# Altium footprint library con-lstb.PCBLIB: 41 footprints (part 1 of 3)
Each footprint in its own frame and in the unit in brackets; x right, y up, seen from the top. Pads: shape width x height; smd on the part's side, far side on the other; paste and mask are expansions set on the pad; w line width, h text height; cw(c..) or ccw(c..) is an arc to the next point about the centre after c.
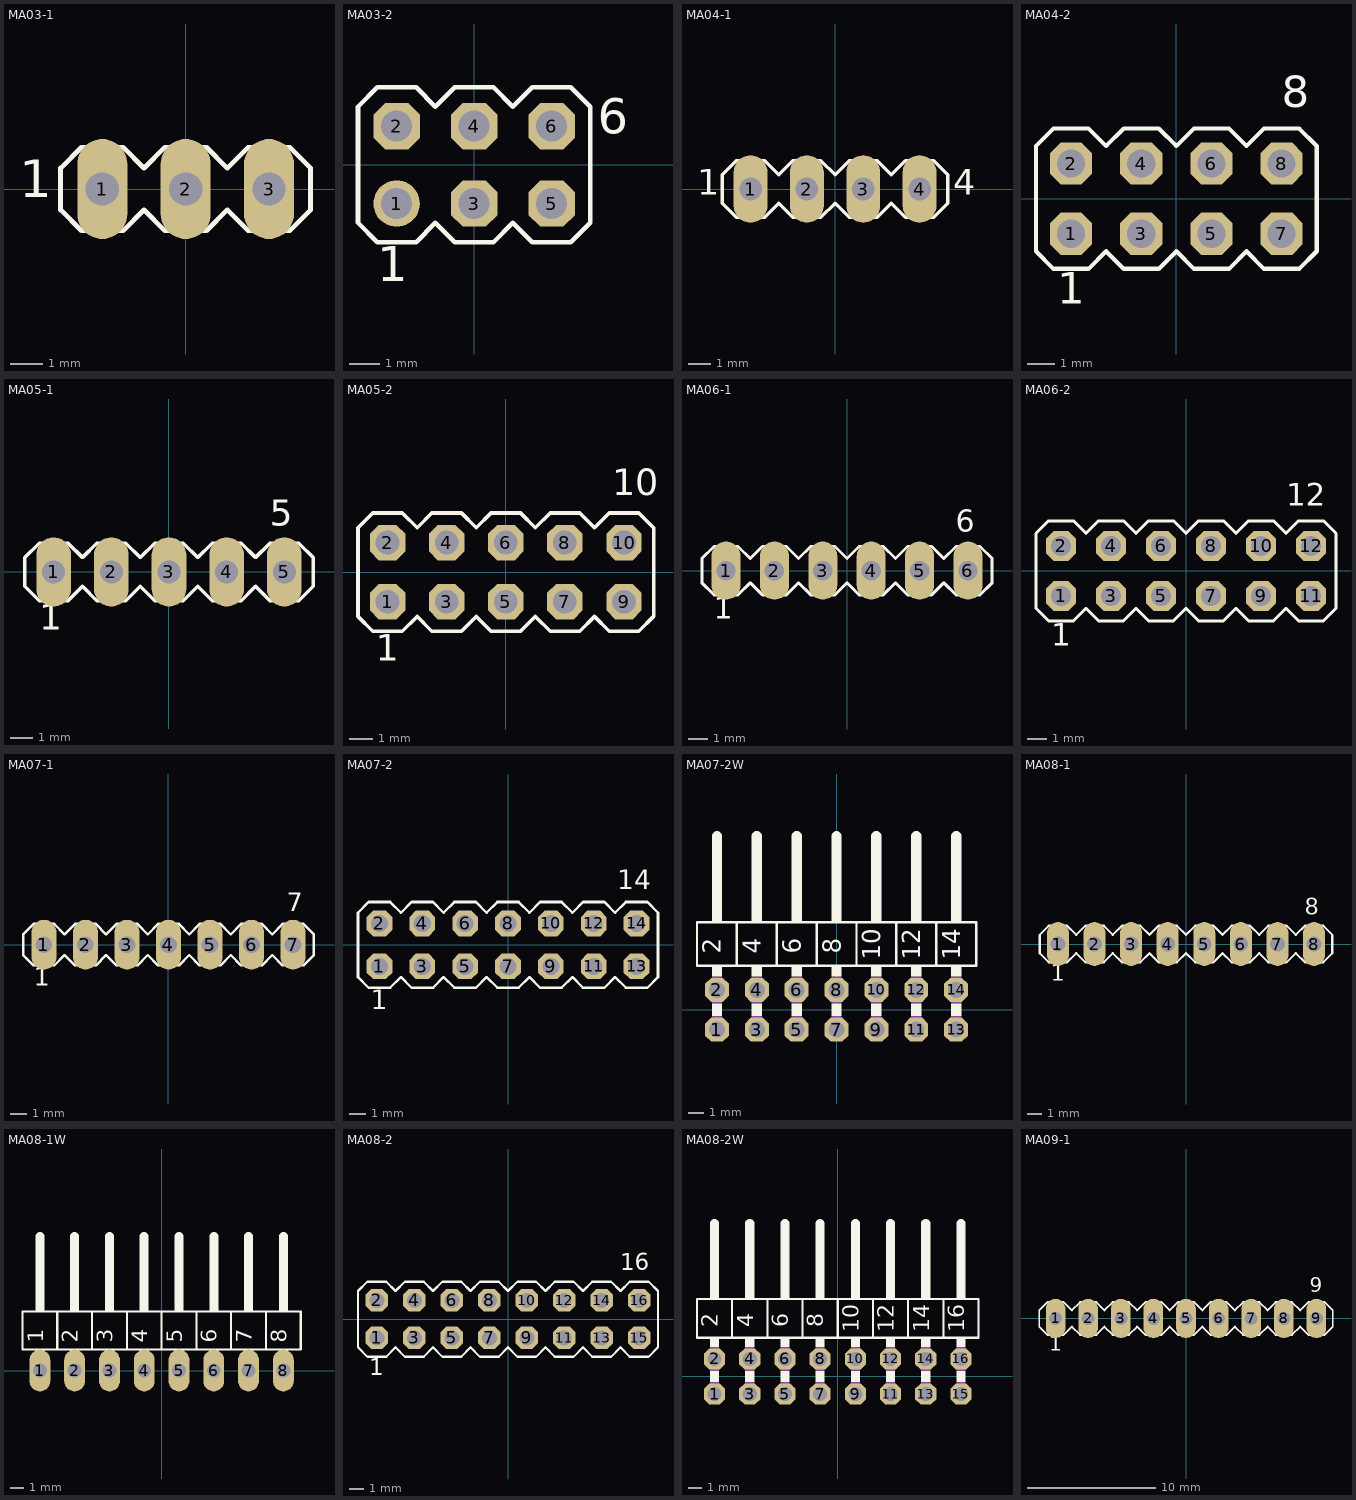
[diagram p0: the footprints below, top view; thin cyan lines are the x and y axes]

## MA03-1 [mil]
pads (3):
  oval 60x120 hole 40: 1(-100,0) 2(0,0) 3(100,0)
Top Overlay:
  lines w6: -150,-25 -150,25 -125,50 -75,50 -50,25 -25,50 25,50 50,25 75,50 125,50 150,25 150,-25 125,-50 75,-50 50,-25 25,-50 -25,-50 -50,-25 -75,-50 -125,-50 -150,-25
  text "1" at -200,-25 h77.5
Mechanical 16:
  rectangle: -10,-10 10,10
  rectangle: -110,-10 -90,10
  rectangle: 90,-10 110,10

## MA03-2 [mil]
pads (6):
  round 60 hole 40: 1(-100,-50)
  oct 60x60 hole 40: 2(-100,50) 3(0,-50) 4(0,50) 5(100,-50) 6(100,50)
Top Overlay:
  lines w6: -150,-75 -150,75 -125,100 -75,100 -50,75 -25,100 25,100 50,75 75,100 125,100 150,75 150,-75 125,-100 75,-100 50,-75 25,-100 -25,-100 -50,-75 -75,-100 -125,-100 -150,-75
  text "1" at -125,-165 h77.5
  text "6" at 160,25 h77.5
Mechanical 16:
  rectangle: -10,-60 10,-40
  rectangle: -110,-60 -90,-40
  rectangle: 90,-60 110,-40
  rectangle: -110,40 -90,60
  rectangle: -10,40 10,60
  rectangle: 90,40 110,60

## MA04-1 [mil]
pads (4):
  oval 60x120 hole 40: 1(-150,0) 2(-50,0) 3(50,0) 4(150,0)
Top Overlay:
  lines w6: -200,-25 -200,25 -175,50 -125,50 -100,25 -75,50 -25,50 0,25 25,50 75,50 100,25 125,50 175,50 200,25 200,-25 175,-50 125,-50 100,-25 75,-50 25,-50 0,-25 -25,-50 -75,-50 -100,-25 -125,-50 -175,-50 -200,-25
  text "1" at -245,-25 h77.5
  text "4" at 210,-25 h77.5
Mechanical 16:
  rectangle: -60,-10 -40,10
  rectangle: -160,-10 -140,10
  rectangle: 40,-10 60,10
  rectangle: 140,-10 160,10

## MA04-2 [mil]
pads (8):
  oct 60x60 hole 40: 1(-150,-50) 2(-150,50) 3(-50,-50) 4(-50,50) 5(50,-50) 6(50,50) 7(150,-50) 8(150,50)
Top Overlay:
  lines w6: -200,-75 -200,75 -175,100 -125,100 -100,75 -75,100 -25,100 0,75 25,100 75,100 100,75 125,100 175,100 200,75 200,-75 175,-100 125,-100 100,-75 75,-100 25,-100 0,-75 -25,-100 -75,-100 -100,-75 -125,-100 -175,-100 -200,-75
  text "1" at -170,-165 h77.5
  text "8" at 150,115 h77.5
Mechanical 16:
  rectangle: -60,-60 -40,-40
  rectangle: -160,-60 -140,-40
  rectangle: 40,-60 60,-40
  rectangle: 140,-60 160,-40
  rectangle: -160,40 -140,60
  rectangle: -60,40 -40,60
  rectangle: 40,40 60,60
  rectangle: 140,40 160,60

## MA05-1 [mil]
pads (5):
  oval 60x120 hole 40: 1(-200,0) 2(-100,0) 3(0,0) 4(100,0) 5(200,0)
Top Overlay:
  lines w6: -250,-25 -250,25 -225,50 -175,50 -150,25 -125,50 -75,50 -50,25 -25,50 25,50 50,25 75,50 125,50 150,25 175,50 225,50 250,25 250,-25 225,-50 175,-50 150,-25 125,-50 75,-50 50,-25 25,-50 -25,-50 -50,-25 -75,-50 -125,-50 -150,-25 -175,-50 -225,-50 -250,-25
  text "1" at -225,-115 h77.5
  text "5" at 175,65 h77.5
Mechanical 16:
  rectangle: -110,-10 -90,10
  rectangle: -210,-10 -190,10
  rectangle: -10,-10 10,10
  rectangle: 190,-10 210,10
  rectangle: 90,-10 110,10

## MA05-2 [mil]
pads (10):
  oct 60x60 hole 40: 1(-200,-50) 2(-200,50) 3(-100,-50) 4(-100,50) 5(0,-50) 6(0,50) 7(100,-50) 8(100,50) 9(200,-50) 10(200,50)
Top Overlay:
  lines w6: -250,-75 -250,75 -225,100 -175,100 -150,75 -125,100 -75,100 -50,75 -25,100 25,100 50,75 75,100 125,100 150,75 175,100 225,100 250,75 250,-75 225,-100 175,-100 150,-75 125,-100 75,-100 50,-75 25,-100 -25,-100 -50,-75 -75,-100 -125,-100 -150,-75 -175,-100 -225,-100 -250,-75
  text "1" at -220,-165 h77.5
  text "10" at 180,115 h77.5
Mechanical 16:
  rectangle: -110,-60 -90,-40
  rectangle: -210,-60 -190,-40
  rectangle: -10,-60 10,-40
  rectangle: 190,-60 210,-40
  rectangle: 90,-60 110,-40
  rectangle: -210,40 -190,60
  rectangle: -110,40 -90,60
  rectangle: -10,40 10,60
  rectangle: 90,40 110,60
  rectangle: 190,40 210,60

## MA06-1 [mil]
pads (6):
  oval 60x120 hole 40: 1(-250,0) 2(-150,0) 3(-50,0) 4(50,0) 5(150,0) 6(250,0)
Top Overlay:
  lines w6: -300,-25 -300,25 -275,50 -225,50 -200,25 -175,50 -125,50 -100,25 -75,50 -25,50 0,25 25,50 75,50 100,25 125,50 175,50 200,25 225,50 275,50 300,25 300,-25 275,-50 225,-50 200,-25 175,-50 125,-50 100,-25 75,-50 25,-50 0,-25 -25,-50 -75,-50 -100,-25 -125,-50 -175,-50 -200,-25 -225,-50 -275,-50 -300,-25
  text "1" at -275,-115 h77.5
  text "6" at 225,65 h77.5
Mechanical 16:
  rectangle: -160,-10 -140,10
  rectangle: -260,-10 -240,10
  rectangle: -60,-10 -40,10
  rectangle: 140,-10 160,10
  rectangle: 40,-10 60,10
  rectangle: 240,-10 260,10

## MA06-2 [mil]
pads (12):
  oct 60x60 hole 40: 1(-250,-50) 2(-250,50) 3(-150,-50) 4(-150,50) 5(-50,-50) 6(-50,50) 7(50,-50) 8(50,50) 9(150,-50) 10(150,50) 11(250,-50) 12(250,50)
Top Overlay:
  lines w6: -300,-75 -300,75 -275,100 -225,100 -200,75 -175,100 -125,100 -100,75 -75,100 -25,100 0,75 25,100 75,100 100,75 125,100 175,100 200,75 225,100 275,100 300,75 300,-75 275,-100 225,-100 200,-75 175,-100 125,-100 100,-75 75,-100 25,-100 0,-75 -25,-100 -75,-100 -100,-75 -125,-100 -175,-100 -200,-75 -225,-100 -275,-100 -300,-75
  text "1" at -270,-165 h77.5
  text "12" at 200,115 h77.5
Mechanical 16:
  rectangle: -160,-60 -140,-40
  rectangle: -260,-60 -240,-40
  rectangle: -60,-60 -40,-40
  rectangle: 140,-60 160,-40
  rectangle: 40,-60 60,-40
  rectangle: 240,-60 260,-40
  rectangle: -260,40 -240,60
  rectangle: -160,40 -140,60
  rectangle: -60,40 -40,60
  rectangle: 40,40 60,60
  rectangle: 140,40 160,60
  rectangle: 240,40 260,60

## MA07-1 [mil]
pads (7):
  oval 60x120 hole 40: 1(-300,0) 2(-200,0) 3(-100,0) 4(0,0) 5(100,0) 6(200,0) 7(300,0)
Top Overlay:
  lines w6: -350,-25 -350,25 -325,50 -275,50 -250,25 -225,50 -175,50 -150,25 -125,50 -75,50 -50,25 -25,50 25,50 50,25 75,50 125,50 150,25 175,50 225,50 250,25 275,50 325,50 350,25 350,-25 325,-50 275,-50 250,-25 225,-50 175,-50 150,-25 125,-50 75,-50 50,-25 25,-50 -25,-50 -50,-25 -75,-50 -125,-50 -150,-25 -175,-50 -225,-50 -250,-25 -275,-50 -325,-50 -350,-25
  text "1" at -325,-115 h77.5
  text "7" at 285,65 h77.5
Mechanical 16:
  rectangle: -210,-10 -190,10
  rectangle: -310,-10 -290,10
  rectangle: -110,-10 -90,10
  rectangle: 90,-10 110,10
  rectangle: -10,-10 10,10
  rectangle: 190,-10 210,10
  rectangle: 290,-10 310,10

## MA07-2 [mil]
pads (14):
  oct 60x60 hole 40: 1(-300,-50) 2(-300,50) 3(-200,-50) 4(-200,50) 5(-100,-50) 6(-100,50) 7(0,-50) 8(0,50) 9(100,-50) 10(100,50) 11(200,-50) 12(200,50) 13(300,-50) 14(300,50)
Top Overlay:
  lines w6: -350,-75 -350,75 -325,100 -275,100 -250,75 -225,100 -175,100 -150,75 -125,100 -75,100 -50,75 -25,100 25,100 50,75 75,100 125,100 150,75 175,100 225,100 250,75 275,100 325,100 350,75 350,-75 325,-100 275,-100 250,-75 225,-100 175,-100 150,-75 125,-100 75,-100 50,-75 25,-100 -25,-100 -50,-75 -75,-100 -125,-100 -150,-75 -175,-100 -225,-100 -250,-75 -275,-100 -325,-100 -350,-75
  text "1" at -320,-165 h77.5
  text "14" at 255,115 h77.5
Mechanical 16:
  rectangle: -210,-60 -190,-40
  rectangle: -310,-60 -290,-40
  rectangle: -110,-60 -90,-40
  rectangle: 90,-60 110,-40
  rectangle: -10,-60 10,-40
  rectangle: 190,-60 210,-40
  rectangle: -310,40 -290,60
  rectangle: -210,40 -190,60
  rectangle: -110,40 -90,60
  rectangle: -10,40 10,60
  rectangle: 90,40 110,60
  rectangle: 190,40 210,60
  rectangle: 290,40 310,60
  rectangle: 290,-60 310,-40

## MA07-2W [mil]
pads (14):
  oct 60x60 hole 40: 1(-300,-50) 2(-300,50) 3(-200,-50) 4(-200,50) 5(-100,-50) 6(-100,50) 7(0,-50) 8(0,50) 9(100,-50) 10(100,50) 11(200,-50) 12(200,50) 13(300,-50) 14(300,50)
Top Overlay:
  rectangle: 187,220 213,250
  rectangle: 287,220 313,250
  rectangle: -313,220 -287,250
  rectangle: -213,220 -187,250
  rectangle: -113,220 -87,250
  rectangle: -13,220 13,250
  rectangle: 87,220 113,250
  rectangle: 287,84 313,110
  rectangle: 187,84 213,110
  rectangle: 87,84 113,110
  rectangle: -13,84 13,110
  rectangle: -113,84 -87,110
  rectangle: -213,84 -187,110
  rectangle: -313,84 -287,110
  rectangle: -313,-16 -287,16
  rectangle: -213,-16 -187,16
  rectangle: -113,-16 -87,16
  rectangle: -13,-16 13,16
  rectangle: 87,-16 113,16
  rectangle: 187,-16 213,16
  rectangle: 287,-16 313,16
  lines w6: -250,110 -250,220 ; -250,110 -350,110 -350,220 -250,220 ; -250,110 -150,110 ; -250,220 -150,220 ; -150,110 -50,110 ; -150,110 -150,220 ; -150,220 -50,220 ; -50,110 50,110 ; -50,110 -50,220 ; -50,220 50,220 ; 50,110 150,110 ; 50,110 50,220 ; 50,220 150,220 ; 150,110 250,110 ; 150,110 150,220 ; 150,220 250,220 ; 250,110 250,220 ; 250,110 350,110 350,220 250,220
  lines w26: -300,250 -300,435 ; -200,250 -200,435 ; -100,250 -100,435 ; 0,250 0,435 ; 100,250 100,435 ; 200,250 200,435 ; 300,250 300,435
  text "14" at 325,125 h77.5
  text "12" at 225,125 h77.5
  text "10" at 125,125 h77.5
  text "8" at 25,140 h77.5
  text "6" at -75,140 h77.5
  text "4" at -175,140 h77.5
  text "2" at -275,140 h77.5
Mechanical 16:
  rectangle: -313,16 -287,84
  rectangle: -313,-62 -287,-16
  rectangle: -213,16 -187,84
  rectangle: -213,-62 -187,-16
  rectangle: -113,16 -87,84
  rectangle: -113,-62 -87,-16
  rectangle: -13,16 13,84
  rectangle: -13,-62 13,-16
  rectangle: 87,16 113,84
  rectangle: 187,16 213,84
  rectangle: 87,-62 113,-16
  rectangle: 187,-62 213,-16
  rectangle: 287,16 313,84
  rectangle: 287,-62 313,-16

## MA08-1 [mil]
pads (8):
  oval 60x120 hole 40: 1(-350,0) 2(-250,0) 3(-150,0) 4(-50,0) 5(50,0) 6(150,0) 7(250,0) 8(350,0)
Top Overlay:
  lines w6: -400,-25 -400,25 -375,50 -325,50 -300,25 -275,50 -225,50 -200,25 -175,50 -125,50 -100,25 -75,50 -25,50 0,25 25,50 75,50 100,25 125,50 175,50 200,25 225,50 275,50 300,25 325,50 375,50 400,25 400,-25 375,-50 325,-50 300,-25 275,-50 225,-50 200,-25 175,-50 125,-50 100,-25 75,-50 25,-50 0,-25 -25,-50 -75,-50 -100,-25 -125,-50 -175,-50 -200,-25 -225,-50 -275,-50 -300,-25 -325,-50 -375,-50 -400,-25
  text "1" at -370,-115 h77.5
  text "8" at 325,65 h77.5
Mechanical 16:
  rectangle: -260,-10 -240,10
  rectangle: -360,-10 -340,10
  rectangle: -160,-10 -140,10
  rectangle: -60,-10 -40,10
  rectangle: 140,-10 160,10
  rectangle: 40,-10 60,10
  rectangle: 240,-10 260,10
  rectangle: 340,-10 360,10

## MA08-1W [mil]
pads (8):
  oval 60x120 hole 40: 1(-350,0) 2(-250,0) 3(-150,0) 4(-50,0) 5(50,0) 6(150,0) 7(250,0) 8(350,0)
Top Overlay:
  rectangle: 137,170 163,200
  rectangle: 237,170 263,200
  rectangle: 337,170 363,200
  rectangle: -363,170 -337,200
  rectangle: -263,170 -237,200
  rectangle: -163,170 -137,200
  rectangle: -63,170 -37,200
  rectangle: 37,170 63,200
  rectangle: 337,34 363,60
  rectangle: 237,34 263,60
  rectangle: 137,34 163,60
  rectangle: 37,34 63,60
  rectangle: -63,34 -37,60
  rectangle: -163,34 -137,60
  rectangle: -263,34 -237,60
  rectangle: -363,34 -337,60
  lines w6: -300,60 -300,170 ; -300,60 -400,60 -400,170 -300,170 ; -300,60 -200,60 ; -300,170 -200,170 ; -200,60 -100,60 ; -200,60 -200,170 ; -200,170 -100,170 ; -100,60 0,60 ; -100,60 -100,170 ; -100,170 0,170 ; 0,60 100,60 ; 0,60 0,170 ; 0,170 100,170 ; 100,60 200,60 ; 100,60 100,170 ; 100,170 200,170 ; 200,60 200,170 ; 200,60 300,60 ; 200,170 300,170 ; 300,60 400,60 400,170 300,170 ; 300,60 300,170
  lines w26: -350,200 -350,385 ; -250,200 -250,385 ; -150,200 -150,385 ; -50,200 -50,385 ; 50,200 50,385 ; 150,200 150,385 ; 250,200 250,385 ; 350,200 350,385
  text "1" at -325,80 h77.5
  text "2" at -225,80 h77.5
  text "3" at -125,80 h77.5
  text "4" at -25,80 h77.5
  text "5" at 75,80 h77.5
  text "6" at 175,80 h77.5
  text "7" at 275,80 h77.5
  text "8" at 375,80 h77.5
Mechanical 16:
  rectangle: 337,-13 363,34
  rectangle: 237,-13 263,34
  rectangle: 137,-13 163,34
  rectangle: 37,-13 63,34
  rectangle: -63,-13 -37,34
  rectangle: -163,-13 -137,34
  rectangle: -263,-13 -237,34
  rectangle: -363,-13 -337,34

## MA08-2 [mil]
pads (16):
  oct 60x60 hole 40: 1(-350,-50) 2(-350,50) 3(-250,-50) 4(-250,50) 5(-150,-50) 6(-150,50) 7(-50,-50) 8(-50,50) 9(50,-50) 10(50,50) 11(150,-50) 12(150,50) 13(250,-50) 14(250,50) 15(350,-50) 16(350,50)
Top Overlay:
  lines w6: -400,-75 -400,75 -375,100 -325,100 -300,75 -275,100 -225,100 -200,75 -175,100 -125,100 -100,75 -75,100 -25,100 0,75 25,100 75,100 100,75 125,100 175,100 200,75 225,100 275,100 300,75 325,100 375,100 400,75 400,-75 375,-100 325,-100 300,-75 275,-100 225,-100 200,-75 175,-100 125,-100 100,-75 75,-100 25,-100 0,-75 -25,-100 -75,-100 -100,-75 -125,-100 -175,-100 -200,-75 -225,-100 -275,-100 -300,-75 -325,-100 -375,-100 -400,-75
  text "1" at -370,-165 h77.5
  text "16" at 300,115 h77.5
Mechanical 16:
  rectangle: -260,-60 -240,-40
  rectangle: -360,-60 -340,-40
  rectangle: -160,-60 -140,-40
  rectangle: 40,-60 60,-40
  rectangle: -60,-60 -40,-40
  rectangle: 140,-60 160,-40
  rectangle: -360,40 -340,60
  rectangle: -260,40 -240,60
  rectangle: -160,40 -140,60
  rectangle: -60,40 -40,60
  rectangle: 40,40 60,60
  rectangle: 140,40 160,60
  rectangle: 340,-60 360,-40
  rectangle: 240,-60 260,-40
  rectangle: 240,40 260,60
  rectangle: 340,40 360,60

## MA08-2W [mil]
pads (16):
  oct 60x60 hole 40: 1(-350,-50) 2(-350,50) 3(-250,-50) 4(-250,50) 5(-150,-50) 6(-150,50) 7(-50,-50) 8(-50,50) 9(50,-50) 10(50,50) 11(150,-50) 12(150,50) 13(250,-50) 14(250,50) 15(350,-50) 16(350,50)
Top Overlay:
  rectangle: 137,220 163,250
  rectangle: 237,220 263,250
  rectangle: 337,220 363,250
  rectangle: -363,220 -337,250
  rectangle: -263,220 -237,250
  rectangle: -163,220 -137,250
  rectangle: -63,220 -37,250
  rectangle: 37,220 63,250
  rectangle: 337,84 363,110
  rectangle: 237,84 263,110
  rectangle: 137,84 163,110
  rectangle: 37,84 63,110
  rectangle: -63,84 -37,110
  rectangle: -163,84 -137,110
  rectangle: -263,84 -237,110
  rectangle: -363,84 -337,110
  rectangle: -363,-16 -337,16
  rectangle: -263,-16 -237,16
  rectangle: -163,-16 -137,16
  rectangle: -63,-16 -37,16
  rectangle: 37,-16 63,16
  rectangle: 137,-16 163,16
  rectangle: 237,-16 263,16
  rectangle: 337,-16 363,16
  lines w6: -300,110 -300,220 ; -300,110 -400,110 -400,220 -300,220 ; -300,110 -200,110 ; -300,220 -200,220 ; -200,110 -100,110 ; -200,110 -200,220 ; -200,220 -100,220 ; -100,110 0,110 ; -100,110 -100,220 ; -100,220 0,220 ; 0,110 100,110 ; 0,110 0,220 ; 0,220 100,220 ; 100,110 200,110 ; 100,110 100,220 ; 100,220 200,220 ; 200,110 200,220 ; 200,110 300,110 ; 200,220 300,220 ; 300,110 400,110 400,220 300,220 ; 300,110 300,220
  lines w26: -350,250 -350,435 ; -250,250 -250,435 ; -150,250 -150,435 ; -50,250 -50,435 ; 50,250 50,435 ; 150,250 150,435 ; 250,250 250,435 ; 350,250 350,435
  text "16" at 375,125 h77.5
  text "14" at 275,125 h77.5
  text "12" at 175,125 h77.5
  text "10" at 75,125 h77.5
  text "8" at -25,140 h77.5
  text "6" at -125,140 h77.5
  text "4" at -225,140 h77.5
  text "2" at -325,140 h77.5
Mechanical 16:
  rectangle: -363,16 -337,84
  rectangle: -363,-62 -337,-16
  rectangle: -263,16 -237,84
  rectangle: -263,-62 -237,-16
  rectangle: -163,16 -137,84
  rectangle: -163,-62 -137,-16
  rectangle: -63,16 -37,84
  rectangle: -63,-62 -37,-16
  rectangle: 37,16 63,84
  rectangle: 137,16 163,84
  rectangle: 37,-62 63,-16
  rectangle: 137,-62 163,-16
  rectangle: 237,16 263,84
  rectangle: 237,-62 263,-16
  rectangle: 337,16 363,84
  rectangle: 337,-62 363,-16

## MA09-1 [mil]
pads (9):
  oval 60x120 hole 40: 1(-400,0) 2(-300,0) 3(-200,0) 4(-100,0) 5(0,0) 6(100,0) 7(200,0) 8(300,0) 9(400,0)
Top Overlay:
  lines w6: -450,-25 -450,25 -425,50 -375,50 -350,25 -325,50 -275,50 -250,25 -225,50 -175,50 -150,25 -125,50 -75,50 -50,25 -25,50 25,50 50,25 75,50 125,50 150,25 175,50 225,50 250,25 275,50 325,50 350,25 375,50 425,50 450,25 450,-25 425,-50 375,-50 350,-25 325,-50 275,-50 250,-25 225,-50 175,-50 150,-25 125,-50 75,-50 50,-25 25,-50 -25,-50 -50,-25 -75,-50 -125,-50 -150,-25 -175,-50 -225,-50 -250,-25 -275,-50 -325,-50 -350,-25 -375,-50 -425,-50 -450,-25
  text "1" at -420,-115 h77.5
  text "9" at 380,65 h77.5
Mechanical 16:
  rectangle: -310,-10 -290,10
  rectangle: -410,-10 -390,10
  rectangle: -210,-10 -190,10
  rectangle: -110,-10 -90,10
  rectangle: 90,-10 110,10
  rectangle: -10,-10 10,10
  rectangle: 190,-10 210,10
  rectangle: 290,-10 310,10
  rectangle: 390,-10 410,10